# Altium schematic symbol library IPT015N10N5.SchLib: 1 symbol
Pins are listed as number, name and electrical type; pins without a type are passive.

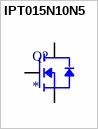
[diagram p0: symbol IPT015N10N5]

## IPT015N10N5
designator Q?
footprint IPT015N10N5
pins: G, S1 S, TAP D